# EAGLE library part MCP6422-E_MS (library SamacSys_Parts)
Microchip MCP6422-E/MS, Dual Low Power Op Amp, 90kHz Rail-Rail, 1.8 5.5 V, 8-Pin MSOP Source: Datasheet <http://www.microchip.com/mymicrochip/filehandler.aspx?ddocname=en561005>
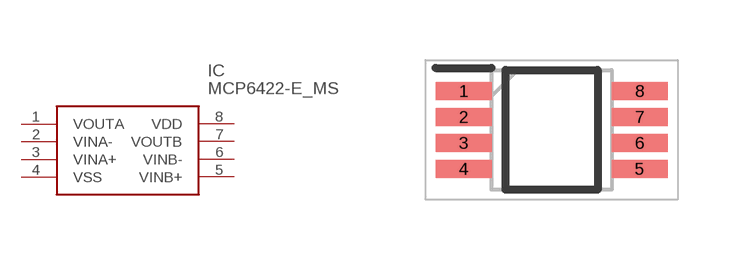
[diagram p8: symbol with the pads of SOP65P490X110-8N; footprint SOP65P490X110-8N]

Designator prefix IC

## MCP6422-E_MS (DESCRIPTION: Microchip MCP6422-E/MS, Dual Low Power Op Amp, 90kHz Rail-Rail, 1.8 5.5 V, 8-Pin MSOP; HEIGHT: 1.1mm; MANUFACTURER_NAME: Microchip; MANUFACTURER_PART_NUMBER: MCP6422-E/MS; MOUSER_PART_NUMBER: 579-MCP6422-E/MS; MOUSER_PRICE-STOCK: https://www.mouser.com/Search/Refine.aspx?Keyword=579-MCP6422-E%2FMS; RS_PART_NUMBER: 7990395P; RS_PRICE-STOCK: http://uk.rs-online.com/web/p/products/7990395P)  [SOP65P490X110-8N]
1  VOUTA
2  VINA-
3  VINA+
4  VSS
5  VINB+
6  VINB-
7  VOUTB
8  VDD

## Footprint SOP65P490X110-8N (pad centres in mm)
8 Lead MS MSOP
smd 1.4 x 0.45: 1 -2.2,0.975; 2 -2.2,0.325; 3 -2.2,-0.325; 4 -2.2,-0.975; 5 2.2,-0.975; 6 2.2,-0.325; 7 2.2,0.325; 8 2.2,0.975